# Altium schematic symbol library Res_Vishay_CRCW04020000Z0EDC_0_Ohm.SchLib: 1 symbol
Pins are listed as number, name and electrical type; pins without a type are passive.

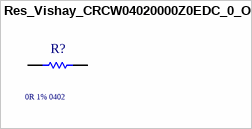
[diagram p0: symbol Res_Vishay_CRCW04020000Z0EDC_0_Ohm]

## Res_Vishay_CRCW04020000Z0EDC_0_Ohm
designator R?  Resistance: 0R 1% 0402  (hidden comment: Res_Vishay_CRCW04020000Z0EDC_0_Ohm)
0R 0.062W 1% 0402 (1005 Metric)  SMD; Supplier 1: Mouser; Supplier Part Number 1: 71-CRCW04020000Z0EDC
footprint Res_Vishay_CRCW04020000Z0EDC_0_Ohm
pins: 1, 2